# Altium footprint library SebVLibr.PcbLib: 85 footprints (part 2 of 6)
Each footprint in its own frame and in the unit in brackets; x right, y up, seen from the top. Pads: shape width x height; smd on the part's side, far side on the other; paste and mask are expansions set on the pad; w line width, h text height; cw(c..) or ccw(c..) is an arc to the next point about the centre after c.
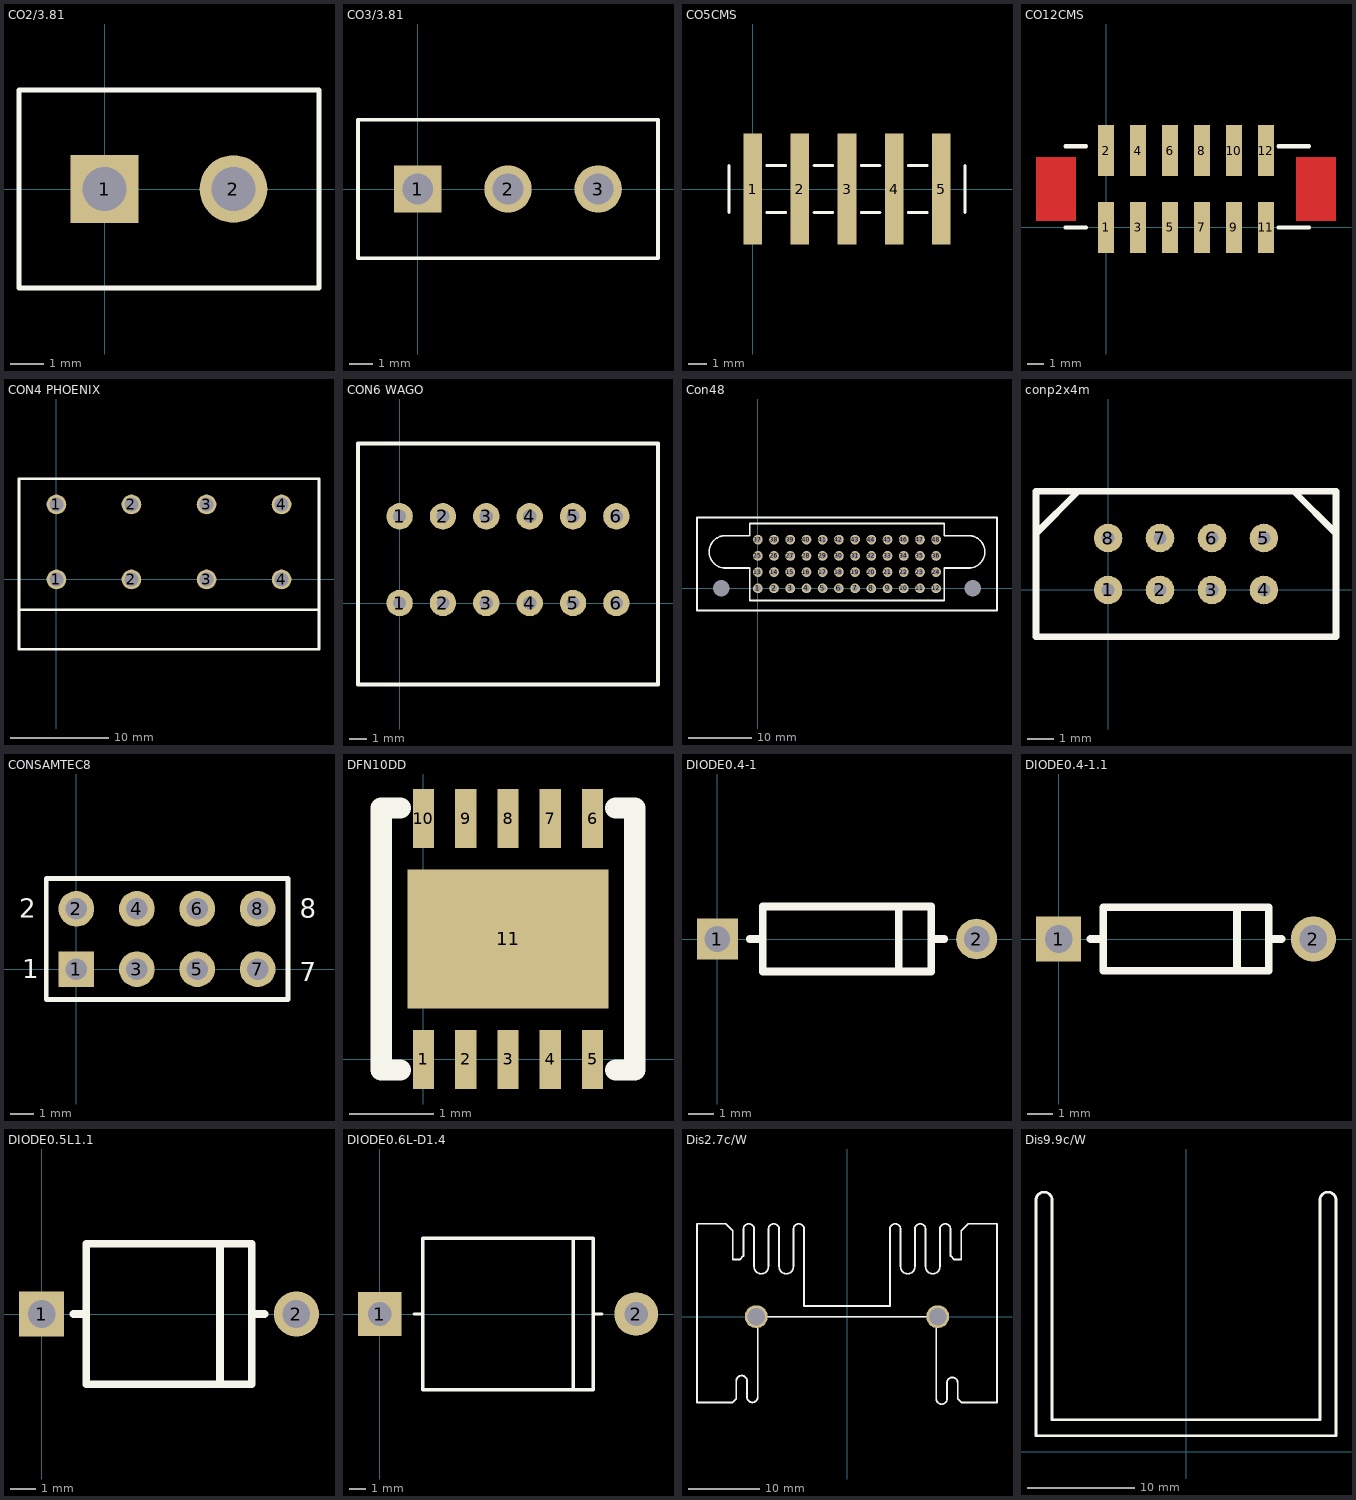
[diagram p1: the footprints below, top view; thin cyan lines are the x and y axes]

## CO2/3.81 [mm] "PHOENIX MCV1.5/2-G-3.81"
pads (2):
  rect 2x2 hole 1.3: 1(0,0)
  round 2 hole 1.3: 2(3.81,0)
Top Overlay:
  lines w0.15: -2.53,-2.93 -2.53,2.93 6.34,2.93 6.34,-2.93 -2.53,-2.93

## CO3/3.81 [mm] "PHOENIX MCV1.5/3-G-3.81"
pads (3):
  rect 2x2 hole 1.3: 1(0,0)
  round 2 hole 1.3: 2(3.81,0) 3(7.62,0)
Top Overlay:
  lines w0.15: -2.53,-2.93 10.15,-2.93 10.15,2.93 -2.53,2.93 -2.53,-2.93
3D body: height 9.2, standoff -3.4, extent -2.6,-4.267 10.22,2.983

## CO5CMS [mm]
pads (5):
  rect 1x6 smd: 1(0,0) 2(2.54,0) 3(5.08,0) 4(7.62,0) 5(10.16,0)
Top Overlay:
  lines w0.15: -1.27,-1.27 -1.27,1.27 ; 0.762,-1.27 1.778,-1.27 ; 0.762,1.27 1.778,1.27 ; 3.302,-1.27 4.318,-1.27 ; 3.302,1.27 4.318,1.27 ; 5.842,-1.27 6.858,-1.27 ; 5.842,1.27 6.858,1.27 ; 8.382,-1.27 9.398,-1.27 ; 8.382,1.27 9.398,1.27 ; 11.43,-1.27 11.43,1.27

## CO12CMS [mm] "connecteur 1773883 farnell"
pads (12):
  rect 1x3.2 smd: 1(0,0) 2(0,4.8) 3(2,0) 4(2,4.8) 5(4,0) 6(4,4.8) 7(6,0) 8(6,4.8) 9(8,0) 10(8,4.8) 11(10,0) 12(10,4.8)
Top Layer:
  region: 14.4,4.4 11.9,4.4 11.9,0.4 14.4,0.4
  rectangle: -4.4,0.4 -1.9,4.4
Top Overlay:
  lines w0.254: -2.54,0 -1.27,0 ; -2.54,5.08 -1.27,5.08 ; 10.795,0 12.7,0 ; 10.795,5.08 12.7,5.08

## CON4 PHOENIX [mm]
pads (8):
  round 2 hole 1.4: 1(0,0) 1(0,7.62) 2(7.62,0) 2(7.62,7.62) 3(15.24,0) 3(15.24,7.62) 4(22.86,0) 4(22.86,7.62)
Top Overlay:
  lines w0.254: -3.8,-3.08 -3.8,-7.08 26.66,-7.08 26.66,-3.08 ; -3.8,-3.08 -3.8,10.22 26.66,10.22 26.66,-3.08 ; -3.8,-3.08 26.66,-3.08

## CON6 WAGO [mil]
height 610.24
pads (12):
  round 60 hole 30: 1(0,0) 1(0,196.85) 2(98.43,0) 2(98.43,196.85) 3(196.85,0) 3(196.85,196.85) 4(295.28,0) 4(295.28,196.85) 5(393.7,0) 5(393.7,196.85) 6(492.13,0) 6(492.13,196.85)
Top Overlay:
  lines w10: -94.49,-185.04 -94.49,362.2 586.61,362.2 586.61,-185.04 -94.49,-185.04

## Con48 [mil] "4*12"
pads (50):
  round 60 hole 39.37: 1(0,0) 2(100,0) 3(200,0) 4(300,0) 5(400,0) 6(500,0) 7(600,0) 8(700,0) 9(800,0) 10(900,0) 11(1000,0) 12(1100,0) 13(0,100) 14(100,100) 15(200,100) 16(300,100) 17(400,100) 18(500,100) 19(600,100) 20(700,100) 21(800,100) 22(900,100) 23(1000,100) 24(1100,100) 25(0,200) 26(100,200) 27(200,200) 28(300,200) 29(400,200) 30(500,200) 31(600,200) 32(700,200) 33(800,200) 34(900,200) 35(1000,200) 36(1100,200) 37(0,300) 38(100,300) 39(200,300) 40(300,300) 41(400,300) 42(500,300) 43(600,300) 44(700,300) 45(800,300) 46(900,300) 47(1000,300) 48(1100,300)
  round 0 hole 100: ""(-225,0) ""(1325,0)
Top Overlay:
  lines w10: -375,-137 1475,-137 1475,437 -375,437 -375,-137 ; -200,125 cw(c-200,225) -200,325 -125,325 -50,325 -50,400 1150,400 1150,325 1225,325 1300,325 cw(c1300,225) 1300,125 1225,125 1150,125 1150,50 1150,-75 -50,-75 -50,50 -50,125 -125,125 -200,125

## conp2x4m [mm] "Petit connecteur 2X4 male"
pads (8):
  round 1.1 hole 0.5: 1(0,0) 2(2,0) 3(4,0) 4(6,0) 5(6,2) 6(4,2) 7(2,2) 8(0,2)
Top Overlay:
  lines w0.254: -2.775,2.175 -1.15,3.8 ; 7.15,3.8 8.775,2.175 ; -2.775,-1.8 -2.775,3.8 8.775,3.8 8.775,-1.8 -2.775,-1.8

## CONSAMTEC8 [mm]
pads (8):
  rect 1.5x1.5 hole 0.9: 1(0,0)
  round 1.5 hole 0.9: 2(0,2.54) 3(2.54,0) 4(2.54,2.54) 5(5.08,0) 6(5.08,2.54) 7(7.62,0) 8(7.62,2.54)
Top Overlay:
  lines w0.2: -1.27,-1.27 8.89,-1.27 8.89,3.81 -1.27,3.81 -1.27,-1.27
  text "2" at -2.413,2.159 h0.8
  text "1" at -2.286,-0.381 h0.8
  text "7" at 9.398,-0.508 h0.8
  text "8" at 9.398,2.159 h0.8

## DFN10DD [mm] "10-Lead Plastic DFN (3mm × 3mm)"
pads (11):
  rect 0.25x0.7 smd: 1(0,0) 2(0.5,0) 3(1,0) 4(1.5,0) 5(2,0) 6(2,2.85) 7(1.5,2.85) 8(1,2.85) 9(0.5,2.85) 10(0,2.85)
  rect 2.38x1.65 smd: 11(1,1.425)
Top Overlay:
  lines w0.254: -0.275,-0.125 -0.5,-0.125 -0.5,2.975 -0.275,2.975 ; 2.275,-0.125 2.5,-0.125 2.5,2.975 2.275,2.975

## DIODE0.4-1 [mm]
pads (2):
  rect 1.6x1.6 hole 1: 1(0,0)
  round 1.6 hole 1: 2(10.16,0)
Top Overlay:
  lines w0.305: 1.27,0 1.778,0 ; 7.112,-1.27 7.112,1.27 ; 8.382,0 8.89,0 ; 1.778,-1.27 1.778,1.27 8.382,1.27 8.382,-1.27 1.778,-1.27

## DIODE0.4-1.1 [mm]
pads (2):
  rect 1.8x1.8 hole 1.1: 1(0,0)
  round 1.8 hole 1.1: 2(10.16,0)
Top Overlay:
  lines w0.305: 1.27,0 1.778,0 ; 7.112,-1.27 7.112,1.27 ; 8.382,0 8.89,0 ; 1.778,-1.27 8.382,-1.27 8.382,1.27 1.778,1.27 1.778,-1.27

## DIODE0.5L1.1 [mm]
pads (2):
  rect 1.8x1.8 hole 1.1: 1(0,0)
  round 1.8 hole 1.1: 2(10.16,0)
Top Overlay:
  lines w0.305: 1.27,0 1.778,0 ; 7.112,-2.8 7.112,2.8 ; 8.382,0 8.89,0 ; 1.778,-2.8 1.778,2.8 8.382,2.8 8.382,-2.8 1.778,-2.8

## DIODE0.6L-D1.4 [mm] "BZW50"
pads (2):
  rect 2.6x2.6 hole 1.4: 1(0,0)
  round 2.6 hole 1.4: 2(15.24,0)
Top Overlay:
  lines w0.2: 2.032,0 2.54,0 ; 11.5,-4.499 11.5,4.501 ; 12.7,0 13.208,0 ; 2.54,-4.5 12.7,-4.5 12.7,4.5 2.54,4.5 2.54,-4.5

## Dis2.7c/W [mm] "Dissipateur TO218;TO220;TO248"
pads (2):
  round 3.2 hole 2.4: ""(-12.7,0) ""(12.7,0)
Top Overlay:
  lines w0.254: -21,-12 -16,-12 -15.5,-11.5 -15.5,-9 cw(c-14.75,-9) -14,-9 -14,-11.25 ccw(c-13.25,-11.25) -12.5,-11.25 -12.5,0 12.5,0 12.5,-11.5 ccw(c13.25,-11.5) 14,-11.5 14,-9.25 cw(c14.75,-9.25) 15.5,-9.25 15.5,-11.5 16,-12 21,-12 21,13 17,13 16,12 16,8 15,8 14.5,8.5 14.5,12.25 ccw(c13.75,12.25) 13,12.25 13,7 cw(c12,7) 11,7 11,12.25 ccw(c10.25,12.25) 9.5,12.25 9.5,7 cw(c8.5,7) 7.5,7 7.5,12.25 ccw(c6.75,12.25) 6,12.25 6,1.5 -6,1.5 -6,12.25 ccw(c-6.75,12.25) -7.5,12.25 -7.5,7 cw(c-8.5,7) -9.5,7 -9.5,12.25 ccw(c-10.25,12.25) -11,12.25 -11,7 cw(c-12,7) -13,7 -13,12.25 ccw(c-13.75,12.25) -14.5,12.25 -14.5,8.5 -15,8 -16,8 -16,12 -17,13 -21,13 -21,-12

## Dis9.9c/W [mm] "Dissipateur TO218;TO220;TO248 Farnell 170074"
Top Overlay:
  lines w0.254: -14,1.5 -14,23.5 cw(c-13.25,23.5) -12.5,23.5 -12.5,3 12.5,3 12.5,23.5 cw(c13.25,23.5) 14,23.5 14,1.5 -14,1.5